# Altium schematic symbol library FET.SchLib: 3 symbols
Pins are listed as number, name and electrical type; pins without a type are passive.

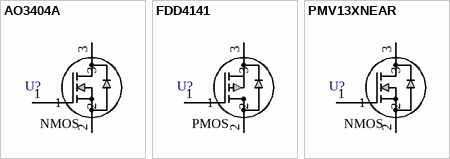
[diagram p0: symbols AO3404A to PMV13XNEAR]

## AO3404A
designator U?
N-Channel 30 V 5.8A (Ta) 1.4W (Ta) Surface Mount SOT-23-3; Manufacturer _Part_Number: AO3404A; Vendor: Alpha & Omega Semiconductor Inc.; SourceLibrary: ON_Semiconductor_2020-01-13; Vgs (Max): 3V @ 5.8A, 10V; Vgs (th): 3V @ 250µA; Vdss: 30V; Rds (on): 28mOhm @ 5.8A, 10V; Amp Rating: 5.8 A; FET Type: N-Channel; Package: SOT23-3L; RefDes: RefDes; Type: DEV; Power Dissipation: 1.4W (Ta); Supplier 1: Digi-Key; Supplier Part Number 1: 785-1004-1-ND
footprint SOT-23_3L_ONS
pins: 1, 2, 3
text: NMOS

## FDD4141
designator U?
P-Channel 10.8A (Ta), 50A (Tc) 2.4W (Ta), 69W (Tc) Surface Mount D-PAK (TO-252AA); Manufacturer_Part_Number: FDD4141; FET Type: P-Channel, Power; Vendor: ON Semiconductor; SourceLibrary: ON_Semiconductor_2020-01-13; Vgs (Max): ±20V; Vgs (th): 3V @ 250µA; Vdss: 40 V; Rds (on): 12.3mOhm @ 12.7A, 10V; Amp Rating: 10.8 A; Package: D-PAK (TO-252AA); RefDes: RefDes; Type: DEV; Power Dissipation: 2.4W (Ta), 69W (Tc); Supplier 1: Digi-Key; Supplier Part Number 1: FDD4141CT-ND
footprint SOT-23_3L_ONS
pins: 1, 2, 3
text: PMOS

## PMV13XNEAR
designator U?
N-Channel 20 V 7.3A (Ta) 610mW (Ta), 8.3W (Tc) Surface Mount TO-236AB; Manufacturer _Part_Number: PMV13XNEAR; Vendor: Nexperia USA Inc.; SourceLibrary: ON_Semiconductor_2020-01-13; Vgs (Max): +/- 12 V; Vgs (th): 1.3V @ 250uA; Vdss: 20 V; Rds (on): 15mOhm @ 7.3A, 8V; Amp Rating: 7.3 A; FET Type: N-Channel; Package: SOT23-3L; RefDes: RefDes; Type: DEV; Power Dissipation: 610mW (Ta), 8.3W (Tc); Supplier 1: DigiKey; Supplier 2: Mouser; Supplier Part Number 2: 771-PMV13XNEAR; Supplier Part Number 1: 1727-PMV13XNEARCT-ND
footprint SOT-23_3L_ONS
pins: 1, 2, 3
text: NMOS